# Altium integrated library Cypress Clocks & Buffers Clock Distribution.IntLib: 321 symbols (part 7 of 25)
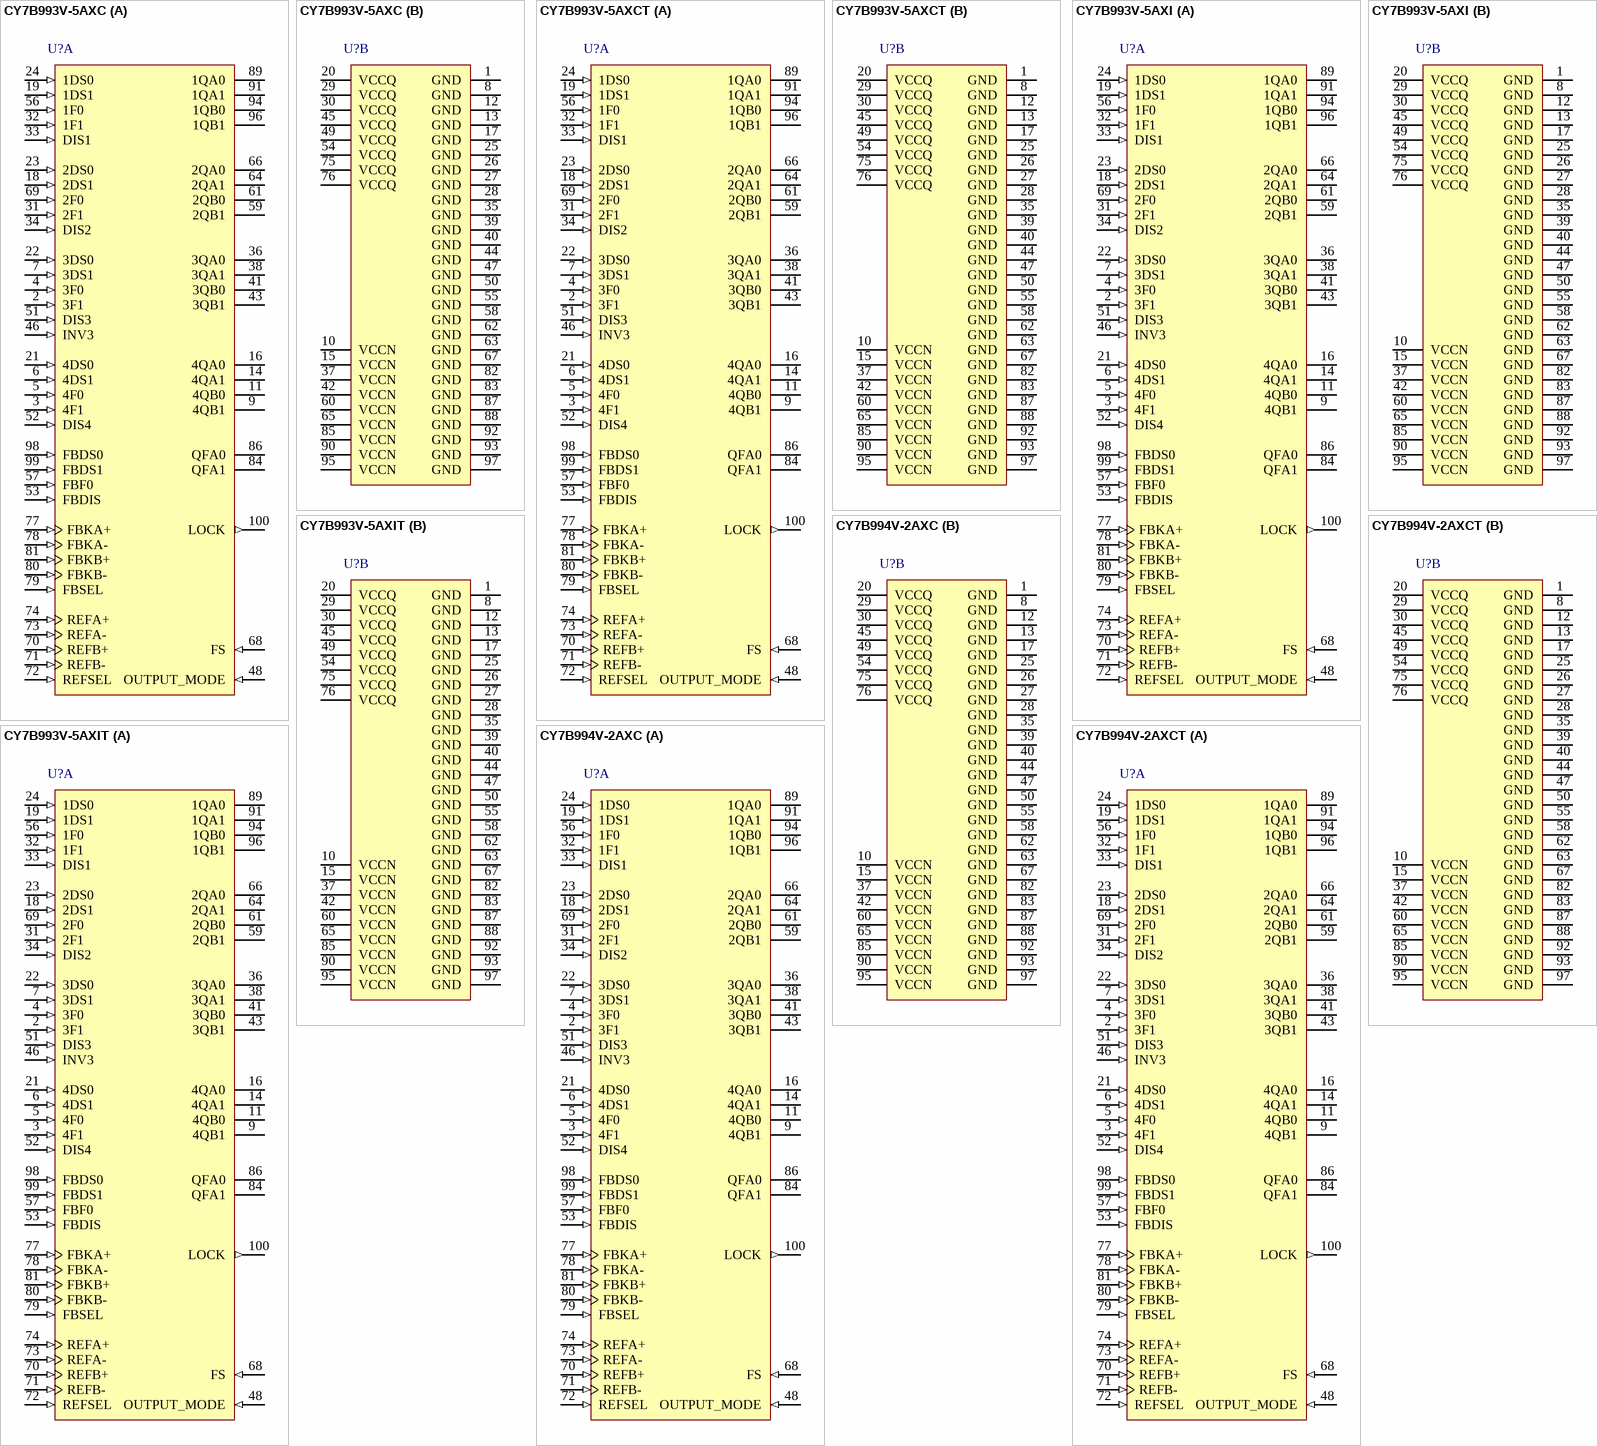
[diagram p22: symbols CY7B993V-5AXC to CY7B994V-2AXCT]

## CY7B993V-5AXCT
designator U?
High Speed Multi Phase PLL Clock Buffer, 3.3 V, 18 Outputs, 12 to 100 MHz, 0 to 70 degC, 100-Pin TQFP (AX100), Tape and Reel; Manufacturer: Cypress; PartNumber: CY7B993V-5AXCT; Input Frequency Max. (MHz): 100; Input Frequency Min. (MHz): 12; Max. Operating Voltage (V): 3.6; Min. Operating Voltage (V): 3; No. of Outputs: 18; DatasheetVersion: Rev. *K; PackageVersion: Rev. *D, 12/2009; PackageReference: AX100; PackageDescription: 100-Pin Thin Plastic Quad Flatpack, Body 14 x14 mm, Pitch 0.5 mm; Supplier 1: Digi-Key; Supplier Part Number 1: CY7B993V-5AXCT-ND; Supplier 2: Mouser; Supplier Part Number 2: 727-CY7B993V5AXCT; Max. Operating Temp. (degreesC): 70; Min. Operating Temp. (degreesC): 0; Output Frequency Max. (MHz): 100; Output Frequency Min. (MHz): 12; Packing: Tape and Reel; RoHS: Pb-Free; Mounting Technology: Surface Mount; Code_JEDEC: MS-026; ComponentLink1Description: Manufacturer URL; ComponentLink1URL: http://www.cypress.com/; ComponentLink2Description: Datasheet; ComponentLink2URL: http://www.cypress.com/?docID=46967; ComponentLink3Description: Package Specification; ComponentLink3URL: http://www.cypress.com/?docID=45180
footprint CYP-AX100_N (QFN, 100-Leads, Body 14x14mm, Pitch 0.5mm, IPC Medium Density)
footprint CYP-AX100_L (QFN, 100-Leads, Body 14x14mm, Pitch 0.5mm, IPC High Density)
footprint CYP-AX100_M (QFN, 100-Leads, Body 14x14mm, Pitch 0.5mm, IPC Low Density)
part A pins: 2 3F1 (in) "Output Phase Function Select. Each pair controls the phase function of the respective bank of outputs (see Table 3 on page 8)", 3 4F1 (in) "Output Phase Function Select. Each pair controls the phase function of the respective bank of outputs (see Table 3 on page 8)", 4 3F0 (in) "Output Phase Function Select. Each pair controls the phase function of the respective bank of outputs (see Table 3 on page 8)", 5 4F0 (in) "Output Phase Function Select. Each pair controls the phase function of the respective bank of outputs (see Table 3 on page 8)", 6 4DS1 (in) "Output Divider Function Select. Each pair controls the divider function of the respective bank of outputs (see Table 4 on page 8).", 7 3DS1 (in) "Output Divider Function Select. Each pair controls the divider function of the respective bank of outputs (see Table 4 on page 8).", 9 4QB1 (hiz) "Clock Output. These outputs provide numerous divide and phase select functions determined by the [1:4]DS[0:1] and [1:4]F[0:1] inputs.", 11 4QB0 (hiz) "Clock Output. These outputs provide numerous divide and phase select functions determined by the [1:4]DS[0:1] and [1:4]F[0:1] inputs.", 14 4QA1 (hiz) "Clock Output. These outputs provide numerous divide and phase select functions determined by the [1:4]DS[0:1] and [1:4]F[0:1] inputs.", 16 4QA0 (hiz) "Clock Output. These outputs provide numerous divide and phase select functions determined by the [1:4]DS[0:1] and [1:4]F[0:1] inputs.", 18 2DS1 (in) "Output Divider Function Select. Each pair controls the divider function of the respective bank of outputs (see Table 4 on page 8).", 19 1DS1 (in) "Output Divider Function Select. Each pair controls the divider function of the respective bank of outputs (see Table 4 on page 8).", 21 4DS0 (in) "Output Divider Function Select. Each pair controls the divider function of the respective bank of outputs (see Table 4 on page 8).", 22 3DS0 (in) "Output Divider Function Select. Each pair controls the divider function of the respective bank of outputs (see Table 4 on page 8).", 23 2DS0 (in) "Output Divider Function Select. Each pair controls the divider function of the respective bank of outputs (see Table 4 on page 8).", 24 1DS0 (in) "Output Divider Function Select. Each pair controls the divider function of the respective bank of outputs (see Table 4 on page 8).", 31 2F1 (in) "Output Phase Function Select. Each pair controls the phase function of the respective bank of outputs (see Table 3 on page 8)", 32 1F1 (in) "Output Phase Function Select. Each pair controls the phase function of the respective bank of outputs (see Table 3 on page 8)", 33 DIS1 (in) "Output Disable. Each input controls the state of the respective output bank. When HIGH, the output bank is disabled to the “HOLD-OFF” or “High Z” state; the disable state is determined by OUTPUT_MODE. When L(See Datasheet)", 34 DIS2 (in) "Output Disable. Each input controls the state of the respective output bank. When HIGH, the output bank is disabled to the “HOLD-OFF” or “High Z” state; the disable state is determined by OUTPUT_MODE. When L(See Datasheet)", 36 3QA0 (hiz) "Clock Output. These outputs provide numerous divide and phase select functions determined by the [1:4]DS[0:1] and [1:4]F[0:1] inputs.", 38 3QA1 (hiz) "Clock Output. These outputs provide numerous divide and phase select functions determined by the [1:4]DS[0:1] and [1:4]F[0:1] inputs.", 41 3QB0 (hiz) "Clock Output. These outputs provide numerous divide and phase select functions determined by the [1:4]DS[0:1] and [1:4]F[0:1] inputs.", 43 3QB1 (hiz) "Clock Output. These outputs provide numerous divide and phase select functions determined by the [1:4]DS[0:1] and [1:4]F[0:1] inputs.", 46 INV3 (in) "Invert Mode. This input only affects Bank 3. When this input is LOW, each matched output pair becomes complementary (3QA0+, 3QA1-, 3QB0+, 3QB1-). When this input is HIGH, all four outputs in the same bank are inverted. When (See Datasheet)", 48 OUTPUT_MODE (in) "Output Mode. This pin determines the clock outputs’ disable state. When this input is HIGH, the clock outputs disable to high impedance (High Z). When this input is LOW, the clock outputs disable to “HOLD-OFF” (See Datasheet)", 51 DIS3 (in) "Output Disable. Each input controls the state of the respective output bank. When HIGH, the output bank is disabled to the “HOLD-OFF” or “High Z” state; the disable state is determined by OUTPUT_MODE. When L(See Datasheet)", 52 DIS4 (in) "Output Disable. Each input controls the state of the respective output bank. When HIGH, the output bank is disabled to the “HOLD-OFF” or “High Z” state; the disable state is determined by OUTPUT_MODE. When L(See Datasheet)", 53 FBDIS (in) "Feedback Disable. This input controls the state of QFA[0:1]. When HIGH, the QFA[0:1] is disabled to the “HOLD-OFF” or “High Z” state; the disable state is determined by OUTPUT_MODE. When LOW, the QFA[0:1] is (See Datasheet)", 56 1F0 (in) "Output Phase Function Select. Each pair controls the phase function of the respective bank of outputs (see Table 3 on page 8)", 57 FBF0 (in) "Feedback Output Phase Function Select. This input determines the phase function of the Feedback bank’s QFA[0:1] outputs (see Table 3 on page 8).", 59 2QB1 (hiz) "Clock Output. These outputs provide numerous divide and phase select functions determined by the [1:4]DS[0:1] and [1:4]F[0:1] inputs.", 61 2QB0 (hiz) "Clock Output. These outputs provide numerous divide and phase select functions determined by the [1:4]DS[0:1] and [1:4]F[0:1] inputs.", 64 2QA1 (hiz) "Clock Output. These outputs provide numerous divide and phase select functions determined by the [1:4]DS[0:1] and [1:4]F[0:1] inputs.", 66 2QA0 (hiz) "Clock Output. These outputs provide numerous divide and phase select functions determined by the [1:4]DS[0:1] and [1:4]F[0:1] inputs.", 68 FS (in) "Frequency Select. This input must be set according to the nominal frequency (fNOM) (see Table 1 on page 7).", 69 2F0 (in) "Output Phase Function Select. Each pair controls the phase function of the respective bank of outputs (see Table 3 on page 8)", 70 REFB+ (in) "Reference Inputs. These inputs can operate as differential PECL or single-ended TTL. These inputs can operate as differential PECL or single-ended LVTTL input, the complementary input must be left open.", 71 REFB- (in) "Reference Inputs. These inputs can operate as differential PECL or single-ended TTL. These inputs can operate as differential PECL or single-ended LVTTL input, the complementary input must be left open.", 72 REFSEL (in) "Reference Select Input. The REFSEL input controls how the reference input is configured. When LOW, it uses the REFA pair as the reference input. When HIGH, it uses the REFB pair as the reference input. This input has an (See Datasheet)", 73 REFA- (in) "Reference Inputs. These inputs can operate as differential PECL or single-ended TTL. These inputs can operate as differential PECL or single-ended LVTTL input, the complementary input must be left open.", 74 REFA+ (in) "Reference Inputs. These inputs can operate as differential PECL or single-ended TTL. These inputs can operate as differential PECL or single-ended LVTTL input, the complementary input must be left open.", 77 FBKA+ (in) "Feedback Inputs. One pair of inputs selected by the FBSEL is used to feedback the clock output xQn to the phase detector. The PLL operates such that the rising edges of the reference and feedback signals are aligned in both (See Datasheet)", 78 FBKA- (in) "Feedback Inputs. One pair of inputs selected by the FBSEL is used to feedback the clock output xQn to the phase detector. The PLL operates such that the rising edges of the reference and feedback signals are aligned in both (See Datasheet)", 79 FBSEL (in) "Feedback Input Select. When LOW, FBKA inputs are selected. When HIGH, the FBKB inputs are selected. This input has an internal pull-down.", 80 FBKB- (in) "Feedback Inputs. One pair of inputs selected by the FBSEL is used to feedback the clock output xQn to the phase detector. The PLL operates such that the rising edges of the reference and feedback signals are aligned in both (See Datasheet)", 81 FBKB+ (in) "Feedback Inputs. One pair of inputs selected by the FBSEL is used to feedback the clock output xQn to the phase detector. The PLL operates such that the rising edges of the reference and feedback signals are aligned in both (See Datasheet)", 84 QFA1 (hiz) "Clock Feedback Output. This pair of clock outputs is intended to be connected to the FB input. These outputs have numerous divide options and three choices of phase adjustments. The function is determined by the setting of (See Datasheet)", 86 QFA0 (hiz) "Clock Feedback Output. This pair of clock outputs is intended to be connected to the FB input. These outputs have numerous divide options and three choices of phase adjustments. The function is determined by the setting of (See Datasheet)", 89 1QA0 (hiz) "Clock Output. These outputs provide numerous divide and phase select functions determined by the [1:4]DS[0:1] and [1:4]F[0:1] inputs.", 91 1QA1 (hiz) "Clock Output. These outputs provide numerous divide and phase select functions determined by the [1:4]DS[0:1] and [1:4]F[0:1] inputs.", 94 1QB0 (hiz) "Clock Output. These outputs provide numerous divide and phase select functions determined by the [1:4]DS[0:1] and [1:4]F[0:1] inputs.", 96 1QB1 (hiz) "Clock Output. These outputs provide numerous divide and phase select functions determined by the [1:4]DS[0:1] and [1:4]F[0:1] inputs.", 98 FBDS0 (in) "Feedback Divider Function Select. These inputs determine the function of the QFA0 and QFA1 outputs (see Table 4 on page 8).", 99 FBDS1 (in) "Feedback Divider Function Select. These inputs determine the function of the QFA0 and QFA1 outputs (see Table 4 on page 8).", 100 LOCK (out) "PLL Lock Indicator. When HIGH, this output indicates the internal PLL is locked to the reference signal. When LOW, the PLL is attempting to acquire lock."
part B pins: 1 GND (power) "Device Ground.", 8 GND (power) "Device Ground.", 10 VCCN (power) "Output Buffer Power. Power supply for each output pair.", 12 GND (power) "Device Ground.", 13 GND (power) "Device Ground.", 15 VCCN (power) "Output Buffer Power. Power supply for each output pair.", 17 GND (power) "Device Ground.", 20 VCCQ (power) "Internal Power. Power supply for the internal circuitry.", 25 GND (power) "Device Ground.", 26 GND (power) "Device Ground.", 27 GND (power) "Device Ground.", 28 GND (power) "Device Ground.", 29 VCCQ (power) "Internal Power. Power supply for the internal circuitry.", 30 VCCQ (power) "Internal Power. Power supply for the internal circuitry.", 35 GND (power) "Device Ground.", 37 VCCN (power) "Output Buffer Power. Power supply for each output pair.", 39 GND (power) "Device Ground.", 40 GND (power) "Device Ground.", 42 VCCN (power) "Output Buffer Power. Power supply for each output pair.", 44 GND (power) "Device Ground.", 45 VCCQ (power) "Internal Power. Power supply for the internal circuitry.", 47 GND (power) "Device Ground.", 49 VCCQ (power) "Internal Power. Power supply for the internal circuitry.", 50 GND (power) "Device Ground.", 54 VCCQ (power) "Internal Power. Power supply for the internal circuitry.", 55 GND (power) "Device Ground.", 58 GND (power) "Device Ground.", 60 VCCN (power) "Output Buffer Power. Power supply for each output pair.", 62 GND (power) "Device Ground.", 63 GND (power) "Device Ground.", 65 VCCN (power) "Output Buffer Power. Power supply for each output pair.", 67 GND (power) "Device Ground.", 75 VCCQ (power) "Internal Power. Power supply for the internal circuitry.", 76 VCCQ (power) "Internal Power. Power supply for the internal circuitry.", 82 GND (power) "Device Ground.", 83 GND (power) "Device Ground.", 85 VCCN (power) "Output Buffer Power. Power supply for each output pair.", 87 GND (power) "Device Ground.", 88 GND (power) "Device Ground.", 90 VCCN (power) "Output Buffer Power. Power supply for each output pair.", 92 GND (power) "Device Ground.", 93 GND (power) "Device Ground.", 95 VCCN (power) "Output Buffer Power. Power supply for each output pair.", 97 GND (power) "Device Ground."

## CY7B993V-5AXI
designator U?
High Speed Multi Phase PLL Clock Buffer, 3.3 V, 18 Outputs, 12 to 100 MHz, -40 to 85 degC, 100-Pin TQFP (AX100), Tray; Manufacturer: Cypress; PartNumber: CY7B993V-5AXI; Input Frequency Max. (MHz): 100; Input Frequency Min. (MHz): 12; Max. Operating Voltage (V): 3.6; Min. Operating Voltage (V): 3; No. of Outputs: 18; DatasheetVersion: Rev. *K; PackageVersion: Rev. *D, 12/2009; PackageReference: AX100; PackageDescription: 100-Pin Thin Plastic Quad Flatpack, Body 14 x14 mm, Pitch 0.5 mm; Supplier 1: Digi-Key; Supplier Part Number 1: CY7B993V-5AXI-ND; Supplier 2: Mouser; Supplier Part Number 2: 727-CY7B993V-5AXI; Max. Operating Temp. (degreesC): 85; Min. Operating Temp. (degreesC): -40; Output Frequency Max. (MHz): 100; Output Frequency Min. (MHz): 12; Packing: Tray; RoHS: Pb-Free; Mounting Technology: Surface Mount; Code_JEDEC: MS-026; ComponentLink1Description: Manufacturer URL; ComponentLink1URL: http://www.cypress.com/; ComponentLink2Description: Datasheet; ComponentLink2URL: http://www.cypress.com/?docID=46967; ComponentLink3Description: Package Specification; ComponentLink3URL: http://www.cypress.com/?docID=45180
footprint CYP-AX100_N (QFN, 100-Leads, Body 14x14mm, Pitch 0.5mm, IPC Medium Density)
footprint CYP-AX100_L (QFN, 100-Leads, Body 14x14mm, Pitch 0.5mm, IPC High Density)
footprint CYP-AX100_M (QFN, 100-Leads, Body 14x14mm, Pitch 0.5mm, IPC Low Density)
part A pins: 2 3F1 (in) "Output Phase Function Select. Each pair controls the phase function of the respective bank of outputs (see Table 3 on page 8)", 3 4F1 (in) "Output Phase Function Select. Each pair controls the phase function of the respective bank of outputs (see Table 3 on page 8)", 4 3F0 (in) "Output Phase Function Select. Each pair controls the phase function of the respective bank of outputs (see Table 3 on page 8)", 5 4F0 (in) "Output Phase Function Select. Each pair controls the phase function of the respective bank of outputs (see Table 3 on page 8)", 6 4DS1 (in) "Output Divider Function Select. Each pair controls the divider function of the respective bank of outputs (see Table 4 on page 8).", 7 3DS1 (in) "Output Divider Function Select. Each pair controls the divider function of the respective bank of outputs (see Table 4 on page 8).", 9 4QB1 (hiz) "Clock Output. These outputs provide numerous divide and phase select functions determined by the [1:4]DS[0:1] and [1:4]F[0:1] inputs.", 11 4QB0 (hiz) "Clock Output. These outputs provide numerous divide and phase select functions determined by the [1:4]DS[0:1] and [1:4]F[0:1] inputs.", 14 4QA1 (hiz) "Clock Output. These outputs provide numerous divide and phase select functions determined by the [1:4]DS[0:1] and [1:4]F[0:1] inputs.", 16 4QA0 (hiz) "Clock Output. These outputs provide numerous divide and phase select functions determined by the [1:4]DS[0:1] and [1:4]F[0:1] inputs.", 18 2DS1 (in) "Output Divider Function Select. Each pair controls the divider function of the respective bank of outputs (see Table 4 on page 8).", 19 1DS1 (in) "Output Divider Function Select. Each pair controls the divider function of the respective bank of outputs (see Table 4 on page 8).", 21 4DS0 (in) "Output Divider Function Select. Each pair controls the divider function of the respective bank of outputs (see Table 4 on page 8).", 22 3DS0 (in) "Output Divider Function Select. Each pair controls the divider function of the respective bank of outputs (see Table 4 on page 8).", 23 2DS0 (in) "Output Divider Function Select. Each pair controls the divider function of the respective bank of outputs (see Table 4 on page 8).", 24 1DS0 (in) "Output Divider Function Select. Each pair controls the divider function of the respective bank of outputs (see Table 4 on page 8).", 31 2F1 (in) "Output Phase Function Select. Each pair controls the phase function of the respective bank of outputs (see Table 3 on page 8)", 32 1F1 (in) "Output Phase Function Select. Each pair controls the phase function of the respective bank of outputs (see Table 3 on page 8)", 33 DIS1 (in) "Output Disable. Each input controls the state of the respective output bank. When HIGH, the output bank is disabled to the “HOLD-OFF” or “High Z” state; the disable state is determined by OUTPUT_MODE. When L(See Datasheet)", 34 DIS2 (in) "Output Disable. Each input controls the state of the respective output bank. When HIGH, the output bank is disabled to the “HOLD-OFF” or “High Z” state; the disable state is determined by OUTPUT_MODE. When L(See Datasheet)", 36 3QA0 (hiz) "Clock Output. These outputs provide numerous divide and phase select functions determined by the [1:4]DS[0:1] and [1:4]F[0:1] inputs.", 38 3QA1 (hiz) "Clock Output. These outputs provide numerous divide and phase select functions determined by the [1:4]DS[0:1] and [1:4]F[0:1] inputs.", 41 3QB0 (hiz) "Clock Output. These outputs provide numerous divide and phase select functions determined by the [1:4]DS[0:1] and [1:4]F[0:1] inputs.", 43 3QB1 (hiz) "Clock Output. These outputs provide numerous divide and phase select functions determined by the [1:4]DS[0:1] and [1:4]F[0:1] inputs.", 46 INV3 (in) "Invert Mode. This input only affects Bank 3. When this input is LOW, each matched output pair becomes complementary (3QA0+, 3QA1-, 3QB0+, 3QB1-). When this input is HIGH, all four outputs in the same bank are inverted. When (See Datasheet)", 48 OUTPUT_MODE (in) "Output Mode. This pin determines the clock outputs’ disable state. When this input is HIGH, the clock outputs disable to high impedance (High Z). When this input is LOW, the clock outputs disable to “HOLD-OFF” (See Datasheet)", 51 DIS3 (in) "Output Disable. Each input controls the state of the respective output bank. When HIGH, the output bank is disabled to the “HOLD-OFF” or “High Z” state; the disable state is determined by OUTPUT_MODE. When L(See Datasheet)", 52 DIS4 (in) "Output Disable. Each input controls the state of the respective output bank. When HIGH, the output bank is disabled to the “HOLD-OFF” or “High Z” state; the disable state is determined by OUTPUT_MODE. When L(See Datasheet)", 53 FBDIS (in) "Feedback Disable. This input controls the state of QFA[0:1]. When HIGH, the QFA[0:1] is disabled to the “HOLD-OFF” or “High Z” state; the disable state is determined by OUTPUT_MODE. When LOW, the QFA[0:1] is (See Datasheet)", 56 1F0 (in) "Output Phase Function Select. Each pair controls the phase function of the respective bank of outputs (see Table 3 on page 8)", 57 FBF0 (in) "Feedback Output Phase Function Select. This input determines the phase function of the Feedback bank’s QFA[0:1] outputs (see Table 3 on page 8).", 59 2QB1 (hiz) "Clock Output. These outputs provide numerous divide and phase select functions determined by the [1:4]DS[0:1] and [1:4]F[0:1] inputs.", 61 2QB0 (hiz) "Clock Output. These outputs provide numerous divide and phase select functions determined by the [1:4]DS[0:1] and [1:4]F[0:1] inputs.", 64 2QA1 (hiz) "Clock Output. These outputs provide numerous divide and phase select functions determined by the [1:4]DS[0:1] and [1:4]F[0:1] inputs.", 66 2QA0 (hiz) "Clock Output. These outputs provide numerous divide and phase select functions determined by the [1:4]DS[0:1] and [1:4]F[0:1] inputs.", 68 FS (in) "Frequency Select. This input must be set according to the nominal frequency (fNOM) (see Table 1 on page 7).", 69 2F0 (in) "Output Phase Function Select. Each pair controls the phase function of the respective bank of outputs (see Table 3 on page 8)", 70 REFB+ (in) "Reference Inputs. These inputs can operate as differential PECL or single-ended TTL. These inputs can operate as differential PECL or single-ended LVTTL input, the complementary input must be left open.", 71 REFB- (in) "Reference Inputs. These inputs can operate as differential PECL or single-ended TTL. These inputs can operate as differential PECL or single-ended LVTTL input, the complementary input must be left open.", 72 REFSEL (in) "Reference Select Input. The REFSEL input controls how the reference input is configured. When LOW, it uses the REFA pair as the reference input. When HIGH, it uses the REFB pair as the reference input. This input has an (See Datasheet)", 73 REFA- (in) "Reference Inputs. These inputs can operate as differential PECL or single-ended TTL. These inputs can operate as differential PECL or single-ended LVTTL input, the complementary input must be left open.", 74 REFA+ (in) "Reference Inputs. These inputs can operate as differential PECL or single-ended TTL. These inputs can operate as differential PECL or single-ended LVTTL input, the complementary input must be left open.", 77 FBKA+ (in) "Feedback Inputs. One pair of inputs selected by the FBSEL is used to feedback the clock output xQn to the phase detector. The PLL operates such that the rising edges of the reference and feedback signals are aligned in both (See Datasheet)", 78 FBKA- (in) "Feedback Inputs. One pair of inputs selected by the FBSEL is used to feedback the clock output xQn to the phase detector. The PLL operates such that the rising edges of the reference and feedback signals are aligned in both (See Datasheet)", 79 FBSEL (in) "Feedback Input Select. When LOW, FBKA inputs are selected. When HIGH, the FBKB inputs are selected. This input has an internal pull-down.", 80 FBKB- (in) "Feedback Inputs. One pair of inputs selected by the FBSEL is used to feedback the clock output xQn to the phase detector. The PLL operates such that the rising edges of the reference and feedback signals are aligned in both (See Datasheet)", 81 FBKB+ (in) "Feedback Inputs. One pair of inputs selected by the FBSEL is used to feedback the clock output xQn to the phase detector. The PLL operates such that the rising edges of the reference and feedback signals are aligned in both (See Datasheet)", 84 QFA1 (hiz) "Clock Feedback Output. This pair of clock outputs is intended to be connected to the FB input. These outputs have numerous divide options and three choices of phase adjustments. The function is determined by the setting of (See Datasheet)", 86 QFA0 (hiz) "Clock Feedback Output. This pair of clock outputs is intended to be connected to the FB input. These outputs have numerous divide options and three choices of phase adjustments. The function is determined by the setting of (See Datasheet)", 89 1QA0 (hiz) "Clock Output. These outputs provide numerous divide and phase select functions determined by the [1:4]DS[0:1] and [1:4]F[0:1] inputs.", 91 1QA1 (hiz) "Clock Output. These outputs provide numerous divide and phase select functions determined by the [1:4]DS[0:1] and [1:4]F[0:1] inputs.", 94 1QB0 (hiz) "Clock Output. These outputs provide numerous divide and phase select functions determined by the [1:4]DS[0:1] and [1:4]F[0:1] inputs.", 96 1QB1 (hiz) "Clock Output. These outputs provide numerous divide and phase select functions determined by the [1:4]DS[0:1] and [1:4]F[0:1] inputs.", 98 FBDS0 (in) "Feedback Divider Function Select. These inputs determine the function of the QFA0 and QFA1 outputs (see Table 4 on page 8).", 99 FBDS1 (in) "Feedback Divider Function Select. These inputs determine the function of the QFA0 and QFA1 outputs (see Table 4 on page 8).", 100 LOCK (out) "PLL Lock Indicator. When HIGH, this output indicates the internal PLL is locked to the reference signal. When LOW, the PLL is attempting to acquire lock."
part B pins: 1 GND (power) "Device Ground.", 8 GND (power) "Device Ground.", 10 VCCN (power) "Output Buffer Power. Power supply for each output pair.", 12 GND (power) "Device Ground.", 13 GND (power) "Device Ground.", 15 VCCN (power) "Output Buffer Power. Power supply for each output pair.", 17 GND (power) "Device Ground.", 20 VCCQ (power) "Internal Power. Power supply for the internal circuitry.", 25 GND (power) "Device Ground.", 26 GND (power) "Device Ground.", 27 GND (power) "Device Ground.", 28 GND (power) "Device Ground.", 29 VCCQ (power) "Internal Power. Power supply for the internal circuitry.", 30 VCCQ (power) "Internal Power. Power supply for the internal circuitry.", 35 GND (power) "Device Ground.", 37 VCCN (power) "Output Buffer Power. Power supply for each output pair.", 39 GND (power) "Device Ground.", 40 GND (power) "Device Ground.", 42 VCCN (power) "Output Buffer Power. Power supply for each output pair.", 44 GND (power) "Device Ground.", 45 VCCQ (power) "Internal Power. Power supply for the internal circuitry.", 47 GND (power) "Device Ground.", 49 VCCQ (power) "Internal Power. Power supply for the internal circuitry.", 50 GND (power) "Device Ground.", 54 VCCQ (power) "Internal Power. Power supply for the internal circuitry.", 55 GND (power) "Device Ground.", 58 GND (power) "Device Ground.", 60 VCCN (power) "Output Buffer Power. Power supply for each output pair.", 62 GND (power) "Device Ground.", 63 GND (power) "Device Ground.", 65 VCCN (power) "Output Buffer Power. Power supply for each output pair.", 67 GND (power) "Device Ground.", 75 VCCQ (power) "Internal Power. Power supply for the internal circuitry.", 76 VCCQ (power) "Internal Power. Power supply for the internal circuitry.", 82 GND (power) "Device Ground.", 83 GND (power) "Device Ground.", 85 VCCN (power) "Output Buffer Power. Power supply for each output pair.", 87 GND (power) "Device Ground.", 88 GND (power) "Device Ground.", 90 VCCN (power) "Output Buffer Power. Power supply for each output pair.", 92 GND (power) "Device Ground.", 93 GND (power) "Device Ground.", 95 VCCN (power) "Output Buffer Power. Power supply for each output pair.", 97 GND (power) "Device Ground."

## CY7B993V-5AXIT
designator U?
High Speed Multi Phase PLL Clock Buffer, 3.3 V, 18 Outputs, 12 to 100 MHz, -40 to 85 degC, 100-Pin TQFP (AX100), Tape and Reel; Manufacturer: Cypress; PartNumber: CY7B993V-5AXIT; Input Frequency Max. (MHz): 100; Input Frequency Min. (MHz): 12; Max. Operating Voltage (V): 3.6; Min. Operating Voltage (V): 3; No. of Outputs: 18; DatasheetVersion: Rev. *K; PackageVersion: Rev. *D, 12/2009; PackageReference: AX100; PackageDescription: 100-Pin Thin Plastic Quad Flatpack, Body 14 x14 mm, Pitch 0.5 mm; Supplier 1: Digi-Key; Supplier Part Number 1: CY7B993V-5AXIT-ND; Supplier 2: Mouser; Supplier Part Number 2: 727-CY7B993V5AXIT; Max. Operating Temp. (degreesC): 85; Min. Operating Temp. (degreesC): -40; Output Frequency Max. (MHz): 100; Output Frequency Min. (MHz): 12; Packing: Tape and Reel; RoHS: Pb-Free; Mounting Technology: Surface Mount; Code_JEDEC: MS-026; ComponentLink1Description: Manufacturer URL; ComponentLink1URL: http://www.cypress.com/; ComponentLink2Description: Datasheet; ComponentLink2URL: http://www.cypress.com/?docID=46967; ComponentLink3Description: Package Specification; ComponentLink3URL: http://www.cypress.com/?docID=45180
footprint CYP-AX100_N (QFN, 100-Leads, Body 14x14mm, Pitch 0.5mm, IPC Medium Density)
footprint CYP-AX100_L (QFN, 100-Leads, Body 14x14mm, Pitch 0.5mm, IPC High Density)
footprint CYP-AX100_M (QFN, 100-Leads, Body 14x14mm, Pitch 0.5mm, IPC Low Density)
part A pins: 2 3F1 (in) "Output Phase Function Select. Each pair controls the phase function of the respective bank of outputs (see Table 3 on page 8)", 3 4F1 (in) "Output Phase Function Select. Each pair controls the phase function of the respective bank of outputs (see Table 3 on page 8)", 4 3F0 (in) "Output Phase Function Select. Each pair controls the phase function of the respective bank of outputs (see Table 3 on page 8)", 5 4F0 (in) "Output Phase Function Select. Each pair controls the phase function of the respective bank of outputs (see Table 3 on page 8)", 6 4DS1 (in) "Output Divider Function Select. Each pair controls the divider function of the respective bank of outputs (see Table 4 on page 8).", 7 3DS1 (in) "Output Divider Function Select. Each pair controls the divider function of the respective bank of outputs (see Table 4 on page 8).", 9 4QB1 (hiz) "Clock Output. These outputs provide numerous divide and phase select functions determined by the [1:4]DS[0:1] and [1:4]F[0:1] inputs.", 11 4QB0 (hiz) "Clock Output. These outputs provide numerous divide and phase select functions determined by the [1:4]DS[0:1] and [1:4]F[0:1] inputs.", 14 4QA1 (hiz) "Clock Output. These outputs provide numerous divide and phase select functions determined by the [1:4]DS[0:1] and [1:4]F[0:1] inputs.", 16 4QA0 (hiz) "Clock Output. These outputs provide numerous divide and phase select functions determined by the [1:4]DS[0:1] and [1:4]F[0:1] inputs.", 18 2DS1 (in) "Output Divider Function Select. Each pair controls the divider function of the respective bank of outputs (see Table 4 on page 8).", 19 1DS1 (in) "Output Divider Function Select. Each pair controls the divider function of the respective bank of outputs (see Table 4 on page 8).", 21 4DS0 (in) "Output Divider Function Select. Each pair controls the divider function of the respective bank of outputs (see Table 4 on page 8).", 22 3DS0 (in) "Output Divider Function Select. Each pair controls the divider function of the respective bank of outputs (see Table 4 on page 8).", 23 2DS0 (in) "Output Divider Function Select. Each pair controls the divider function of the respective bank of outputs (see Table 4 on page 8).", 24 1DS0 (in) "Output Divider Function Select. Each pair controls the divider function of the respective bank of outputs (see Table 4 on page 8).", 31 2F1 (in) "Output Phase Function Select. Each pair controls the phase function of the respective bank of outputs (see Table 3 on page 8)", 32 1F1 (in) "Output Phase Function Select. Each pair controls the phase function of the respective bank of outputs (see Table 3 on page 8)", 33 DIS1 (in) "Output Disable. Each input controls the state of the respective output bank. When HIGH, the output bank is disabled to the “HOLD-OFF” or “High Z” state; the disable state is determined by OUTPUT_MODE. When L(See Datasheet)", 34 DIS2 (in) "Output Disable. Each input controls the state of the respective output bank. When HIGH, the output bank is disabled to the “HOLD-OFF” or “High Z” state; the disable state is determined by OUTPUT_MODE. When L(See Datasheet)", 36 3QA0 (hiz) "Clock Output. These outputs provide numerous divide and phase select functions determined by the [1:4]DS[0:1] and [1:4]F[0:1] inputs.", 38 3QA1 (hiz) "Clock Output. These outputs provide numerous divide and phase select functions determined by the [1:4]DS[0:1] and [1:4]F[0:1] inputs.", 41 3QB0 (hiz) "Clock Output. These outputs provide numerous divide and phase select functions determined by the [1:4]DS[0:1] and [1:4]F[0:1] inputs.", 43 3QB1 (hiz) "Clock Output. These outputs provide numerous divide and phase select functions determined by the [1:4]DS[0:1] and [1:4]F[0:1] inputs.", 46 INV3 (in) "Invert Mode. This input only affects Bank 3. When this input is LOW, each matched output pair becomes complementary (3QA0+, 3QA1-, 3QB0+, 3QB1-). When this input is HIGH, all four outputs in the same bank are inverted. When (See Datasheet)", 48 OUTPUT_MODE (in) "Output Mode. This pin determines the clock outputs’ disable state. When this input is HIGH, the clock outputs disable to high impedance (High Z). When this input is LOW, the clock outputs disable to “HOLD-OFF” (See Datasheet)", 51 DIS3 (in) "Output Disable. Each input controls the state of the respective output bank. When HIGH, the output bank is disabled to the “HOLD-OFF” or “High Z” state; the disable state is determined by OUTPUT_MODE. When L(See Datasheet)", 52 DIS4 (in) "Output Disable. Each input controls the state of the respective output bank. When HIGH, the output bank is disabled to the “HOLD-OFF” or “High Z” state; the disable state is determined by OUTPUT_MODE. When L(See Datasheet)", 53 FBDIS (in) "Feedback Disable. This input controls the state of QFA[0:1]. When HIGH, the QFA[0:1] is disabled to the “HOLD-OFF” or “High Z” state; the disable state is determined by OUTPUT_MODE. When LOW, the QFA[0:1] is (See Datasheet)", 56 1F0 (in) "Output Phase Function Select. Each pair controls the phase function of the respective bank of outputs (see Table 3 on page 8)", 57 FBF0 (in) "Feedback Output Phase Function Select. This input determines the phase function of the Feedback bank’s QFA[0:1] outputs (see Table 3 on page 8).", 59 2QB1 (hiz) "Clock Output. These outputs provide numerous divide and phase select functions determined by the [1:4]DS[0:1] and [1:4]F[0:1] inputs.", 61 2QB0 (hiz) "Clock Output. These outputs provide numerous divide and phase select functions determined by the [1:4]DS[0:1] and [1:4]F[0:1] inputs.", 64 2QA1 (hiz) "Clock Output. These outputs provide numerous divide and phase select functions determined by the [1:4]DS[0:1] and [1:4]F[0:1] inputs.", 66 2QA0 (hiz) "Clock Output. These outputs provide numerous divide and phase select functions determined by the [1:4]DS[0:1] and [1:4]F[0:1] inputs.", 68 FS (in) "Frequency Select. This input must be set according to the nominal frequency (fNOM) (see Table 1 on page 7).", 69 2F0 (in) "Output Phase Function Select. Each pair controls the phase function of the respective bank of outputs (see Table 3 on page 8)", 70 REFB+ (in) "Reference Inputs. These inputs can operate as differential PECL or single-ended TTL. These inputs can operate as differential PECL or single-ended LVTTL input, the complementary input must be left open.", 71 REFB- (in) "Reference Inputs. These inputs can operate as differential PECL or single-ended TTL. These inputs can operate as differential PECL or single-ended LVTTL input, the complementary input must be left open.", 72 REFSEL (in) "Reference Select Input. The REFSEL input controls how the reference input is configured. When LOW, it uses the REFA pair as the reference input. When HIGH, it uses the REFB pair as the reference input. This input has an (See Datasheet)", 73 REFA- (in) "Reference Inputs. These inputs can operate as differential PECL or single-ended TTL. These inputs can operate as differential PECL or single-ended LVTTL input, the complementary input must be left open.", 74 REFA+ (in) "Reference Inputs. These inputs can operate as differential PECL or single-ended TTL. These inputs can operate as differential PECL or single-ended LVTTL input, the complementary input must be left open.", 77 FBKA+ (in) "Feedback Inputs. One pair of inputs selected by the FBSEL is used to feedback the clock output xQn to the phase detector. The PLL operates such that the rising edges of the reference and feedback signals are aligned in both (See Datasheet)", 78 FBKA- (in) "Feedback Inputs. One pair of inputs selected by the FBSEL is used to feedback the clock output xQn to the phase detector. The PLL operates such that the rising edges of the reference and feedback signals are aligned in both (See Datasheet)", 79 FBSEL (in) "Feedback Input Select. When LOW, FBKA inputs are selected. When HIGH, the FBKB inputs are selected. This input has an internal pull-down.", 80 FBKB- (in) "Feedback Inputs. One pair of inputs selected by the FBSEL is used to feedback the clock output xQn to the phase detector. The PLL operates such that the rising edges of the reference and feedback signals are aligned in both (See Datasheet)", 81 FBKB+ (in) "Feedback Inputs. One pair of inputs selected by the FBSEL is used to feedback the clock output xQn to the phase detector. The PLL operates such that the rising edges of the reference and feedback signals are aligned in both (See Datasheet)", 84 QFA1 (hiz) "Clock Feedback Output. This pair of clock outputs is intended to be connected to the FB input. These outputs have numerous divide options and three choices of phase adjustments. The function is determined by the setting of (See Datasheet)", 86 QFA0 (hiz) "Clock Feedback Output. This pair of clock outputs is intended to be connected to the FB input. These outputs have numerous divide options and three choices of phase adjustments. The function is determined by the setting of (See Datasheet)", 89 1QA0 (hiz) "Clock Output. These outputs provide numerous divide and phase select functions determined by the [1:4]DS[0:1] and [1:4]F[0:1] inputs.", 91 1QA1 (hiz) "Clock Output. These outputs provide numerous divide and phase select functions determined by the [1:4]DS[0:1] and [1:4]F[0:1] inputs.", 94 1QB0 (hiz) "Clock Output. These outputs provide numerous divide and phase select functions determined by the [1:4]DS[0:1] and [1:4]F[0:1] inputs.", 96 1QB1 (hiz) "Clock Output. These outputs provide numerous divide and phase select functions determined by the [1:4]DS[0:1] and [1:4]F[0:1] inputs.", 98 FBDS0 (in) "Feedback Divider Function Select. These inputs determine the function of the QFA0 and QFA1 outputs (see Table 4 on page 8).", 99 FBDS1 (in) "Feedback Divider Function Select. These inputs determine the function of the QFA0 and QFA1 outputs (see Table 4 on page 8).", 100 LOCK (out) "PLL Lock Indicator. When HIGH, this output indicates the internal PLL is locked to the reference signal. When LOW, the PLL is attempting to acquire lock."
part B pins: 1 GND (power) "Device Ground.", 8 GND (power) "Device Ground.", 10 VCCN (power) "Output Buffer Power. Power supply for each output pair.", 12 GND (power) "Device Ground.", 13 GND (power) "Device Ground.", 15 VCCN (power) "Output Buffer Power. Power supply for each output pair.", 17 GND (power) "Device Ground.", 20 VCCQ (power) "Internal Power. Power supply for the internal circuitry.", 25 GND (power) "Device Ground.", 26 GND (power) "Device Ground.", 27 GND (power) "Device Ground.", 28 GND (power) "Device Ground.", 29 VCCQ (power) "Internal Power. Power supply for the internal circuitry.", 30 VCCQ (power) "Internal Power. Power supply for the internal circuitry.", 35 GND (power) "Device Ground.", 37 VCCN (power) "Output Buffer Power. Power supply for each output pair.", 39 GND (power) "Device Ground.", 40 GND (power) "Device Ground.", 42 VCCN (power) "Output Buffer Power. Power supply for each output pair.", 44 GND (power) "Device Ground.", 45 VCCQ (power) "Internal Power. Power supply for the internal circuitry.", 47 GND (power) "Device Ground.", 49 VCCQ (power) "Internal Power. Power supply for the internal circuitry.", 50 GND (power) "Device Ground.", 54 VCCQ (power) "Internal Power. Power supply for the internal circuitry.", 55 GND (power) "Device Ground.", 58 GND (power) "Device Ground.", 60 VCCN (power) "Output Buffer Power. Power supply for each output pair.", 62 GND (power) "Device Ground.", 63 GND (power) "Device Ground.", 65 VCCN (power) "Output Buffer Power. Power supply for each output pair.", 67 GND (power) "Device Ground.", 75 VCCQ (power) "Internal Power. Power supply for the internal circuitry.", 76 VCCQ (power) "Internal Power. Power supply for the internal circuitry.", 82 GND (power) "Device Ground.", 83 GND (power) "Device Ground.", 85 VCCN (power) "Output Buffer Power. Power supply for each output pair.", 87 GND (power) "Device Ground.", 88 GND (power) "Device Ground.", 90 VCCN (power) "Output Buffer Power. Power supply for each output pair.", 92 GND (power) "Device Ground.", 93 GND (power) "Device Ground.", 95 VCCN (power) "Output Buffer Power. Power supply for each output pair.", 97 GND (power) "Device Ground."